# EAGLE library part LMZM23601V3SILT (library GROUND-STATION-POWER-BOARD)
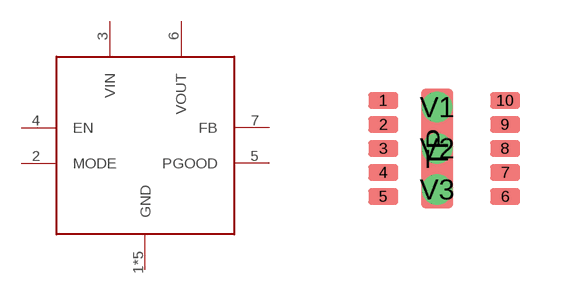
[diagram p10: symbol with the pads of MICRO-SIP; footprint MICRO-SIP]

Designator prefix -

## LMZM23601V3SILT  [MICRO-SIP]
1  GND
2  MODE
3  VIN
4  EN
5  PGOOD
6  VOUT
7  FB
TP  GND
V1  GND
V2  GND
V3  GND

## Footprint MICRO-SIP (pad centres in mm)
smd 0.75 x 0.4: 1 -1.525,1.2; 2 -1.525,0.6; 3 -1.525,0; 4 -1.525,-0.6; 5 -1.525,-1.2; 6 1.525,-1.2; 7 1.525,-0.6; 8 1.525,0; 9 1.525,0.6; 10 1.525,1.2
smd 0.8 x 3: TP -0.175,0
drill 0.254 pad 0.508: V1 -0.175,1.03; V2 -0.175,0; V3 -0.175,-1.03